# Altium footprint library PCB - POWER - PCN1S12S12MTR.PcbLib: 1 footprints
Each footprint in its own frame and in the unit in brackets; x right, y up, seen from the top. Pads: shape width x height; smd on the part's side, far side on the other; paste and mask are expansions set on the pad; w line width, h text height; cw(c..) or ccw(c..) is an arc to the next point about the centre after c.
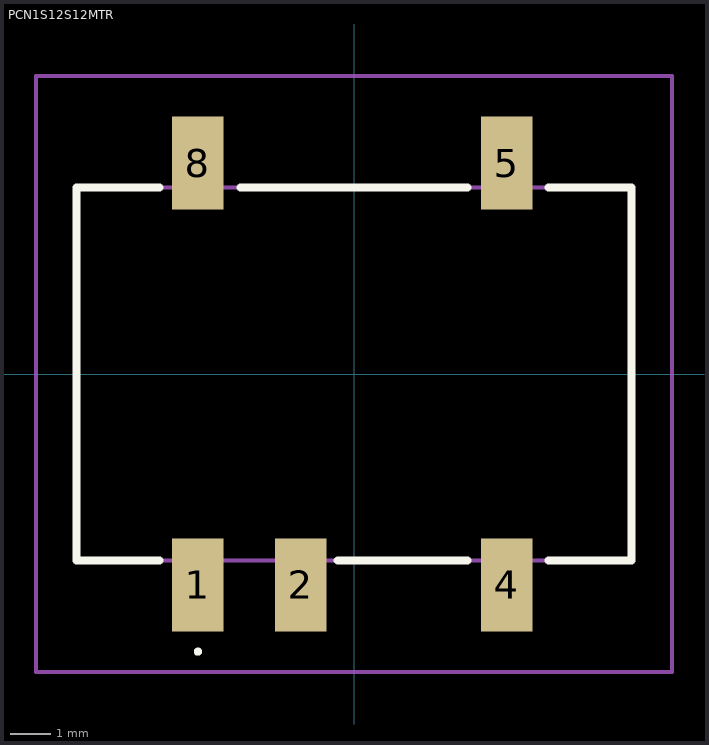
[diagram p0: the footprint, top view; thin cyan lines are the x and y axes]

## PCN1S12S12MTR [mm]
pads (5):
  rect 1.27x2.29 smd: 1(-3.85,-5.205) 2(-1.31,-5.205) 4(3.77,-5.205) 5(3.77,5.205) 8(-3.85,5.205)
Top Overlay:
  lines w0.1: -3.85,-6.9 cw(c-3.85,-6.85) -3.85,-6.8 cw(c-3.85,-6.85) -3.85,-6.9
  lines w0.2: -4.8,-4.6 -6.85,-4.6 -6.85,4.6 -4.8,4.6 ; -2.8,4.6 2.8,4.6 ; -0.4,-4.6 2.8,-4.6 ; 4.8,-4.6 6.85,-4.6 6.85,4.6 4.8,4.6
Top Value (Mech13):
  lines w0.1: -6.85,-4.6 6.85,-4.6 6.85,4.6 -6.85,4.6 -6.85,-4.6
Mechanical 15:
  lines w0.1: -7.85,-7.35 7.85,-7.35 7.85,7.35 -7.85,7.35 -7.85,-7.35
3D body "PCN1-S12-S12-M-TR.stp": height 7.7, standoff 0, extent -6.85,-5.6 6.85,5.6